# EAGLE library part 2.54MM_2_X_5_SMD_SHROUDED_HEADER (library Labops_Lib_AH)
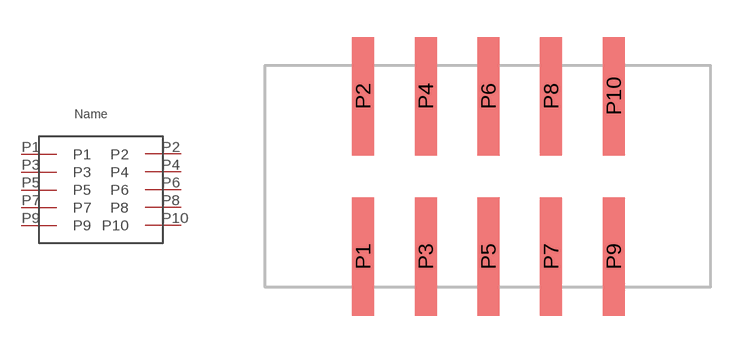
[diagram p2: symbol with the pads of 2.54MM_2_X_5_SMD_SHROUDED_HEADER; footprint 2.54MM_2_X_5_SMD_SHROUDED_HEADER]

Designator prefix -

## 2.54MM_2_X_5_SMD_SHROUDED_HEADER2.54MM_2_X_5_SMD_SHROUDED_HEADER  [2.54MM_2_X_5_SMD_SHROUDED_HEADER]
P1  P1
P2  P2
P3  P3
P4  P4
P5  P5
P6  P6
P7  P7
P8  P8
P9  P9
P10  P10

## Footprint 2.54MM_2_X_5_SMD_SHROUDED_HEADER (pad centres in mm)
smd 0.89 x 4.8: P1 -5.08,-3.25; P2 -5.08,3.25; P3 -2.54,-3.25; P4 -2.54,3.25; P5 0,-3.25; P6 0,3.25; P7 2.54,-3.25; P8 2.54,3.25; P9 5.08,-3.25; P10 5.08,3.25